# Altium footprint library TYCO_292304.PcbLib: 1 footprints
Each footprint in its own frame and in the unit in brackets; x right, y up, seen from the top. Pads: shape width x height; smd on the part's side, far side on the other; paste and mask are expansions set on the pad; w line width, h text height; cw(c..) or ccw(c..) is an arc to the next point about the centre after c.
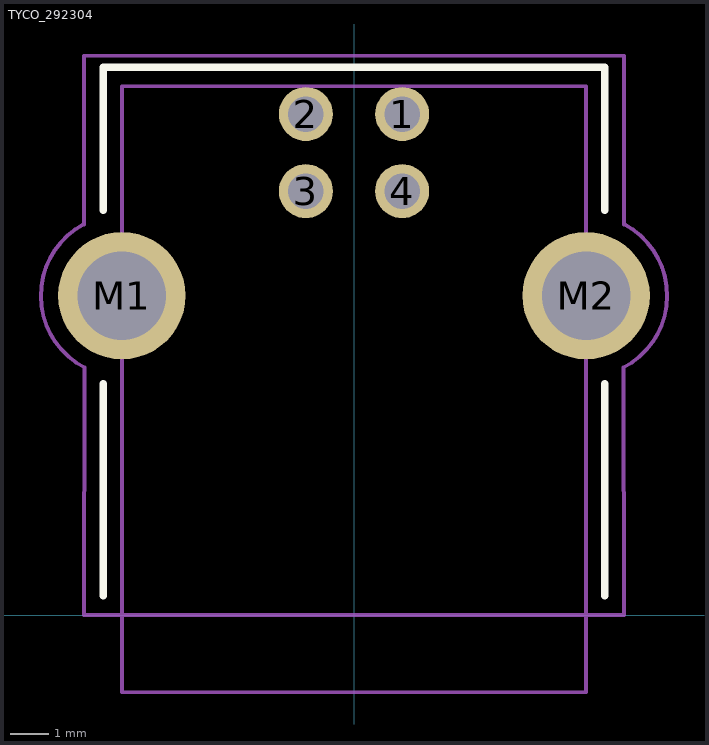
[diagram p0: the footprint, top view; thin cyan lines are the x and y axes]

## TYCO_292304 [mm]
pads (6):
  round 1.4 hole 0.92: 1(1.25,12.99) 2(-1.25,12.99) 3(-1.25,10.99) 4(1.25,10.99)
  round 3.3 hole 2.3: M1(-6.02,8.28) M2(6.02,8.28)
Top Overlay:
  lines w0.2: -6.5,0.5 -6.5,6 ; -6.5,10.5 -6.5,14.2 6.5,14.2 6.5,10.5 ; 6.5,0.5 6.5,6
Mechanical 13:
  lines w0.1: -6.02,-2 6.02,-2 6.02,13.71 -6.02,13.71 -6.02,-2
Mechanical 15:
  lines w0.1: -7.016,10.129 ccw(c-6.02,8.28) -6.991,6.418 -7,0 7,0 6.991,6.418 ccw(c6.02,8.28) 7.016,10.129 ; -7,10.129 -7,14.5 7,14.5 7,10.129
3D body: height 11.51, standoff -3.92, extent -7.2,-2 7.19,13.7